# EAGLE library part TLC591*? (library custom)
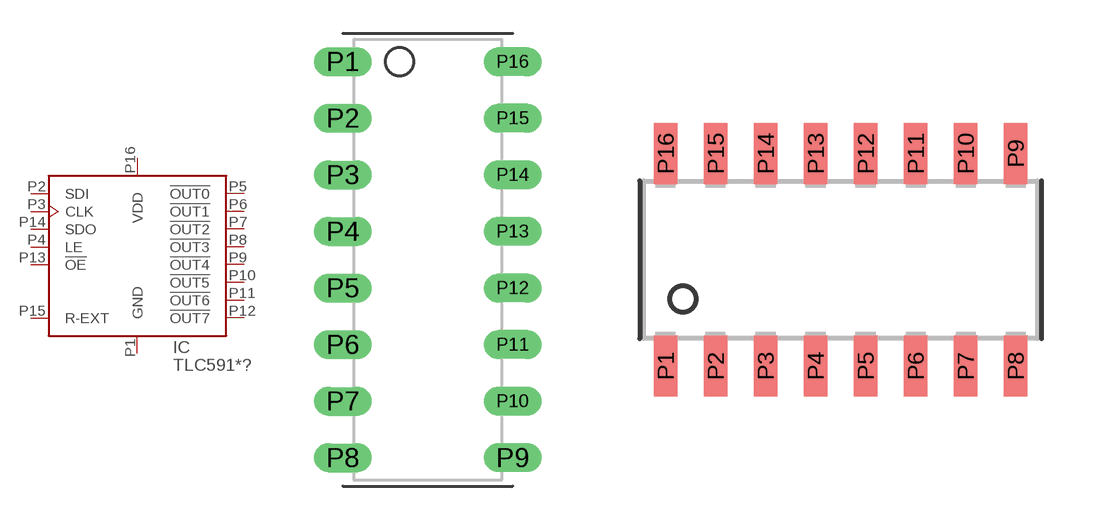
[diagram p0: symbol with the pads of PDIP-16; footprints PDIP-16, SOIC-16]

Designator prefix IC

## TLC5916IN, TLC5917IN  [PDIP-16]
P1  GND  pwr
P2  SDI  in
P3  CLK  in
P4  LE  in
P5  !OUT0
P6  !OUT1
P7  !OUT2
P8  !OUT3
P9  !OUT4
P10  !OUT5
P11  !OUT6
P12  !OUT7
P13  !OE  in
P14  SDO  out
P15  R-EXT
P16  VDD  pwr

## TLC5916ID, TLC5917ID  [SOIC-16]
Pads as for PDIP-16

## Footprint PDIP-16 (pad centres in mm)
drill 0.8 long: P1 -3.81,8.89; P2 -3.81,6.35; P3 -3.81,3.81; P4 -3.81,1.27; P5 -3.81,-1.27; P6 -3.81,-3.81; P7 -3.81,-6.35; P8 -3.81,-8.89; P9 3.81,-8.89; P10 3.81,-6.35; P11 3.81,-3.81; P12 3.81,-1.27; P13 3.81,1.27; P14 3.81,3.81; P15 3.81,6.35; P16 3.81,8.89

## Footprint SOIC-16 (pad centres in mm)
smd 0.6 x 1.55: P1 -4.445,-2.7; P2 -3.175,-2.7; P3 -1.905,-2.7; P4 -0.635,-2.7; P5 0.635,-2.7; P6 1.905,-2.7; P7 3.175,-2.7; P8 4.445,-2.7; P9 4.445,2.7; P10 3.175,2.7; P11 1.905,2.7; P12 0.635,2.7; P13 -0.635,2.7; P14 -1.905,2.7; P15 -3.175,2.7; P16 -4.445,2.7